# Altium footprint library Components_UNO.PcbLib: 25 footprints (part 1 of 2)
Each footprint in its own frame and in the unit in brackets; x right, y up, seen from the top. Pads: shape width x height; smd on the part's side, far side on the other; paste and mask are expansions set on the pad; w line width, h text height; cw(c..) or ccw(c..) is an arc to the next point about the centre after c.
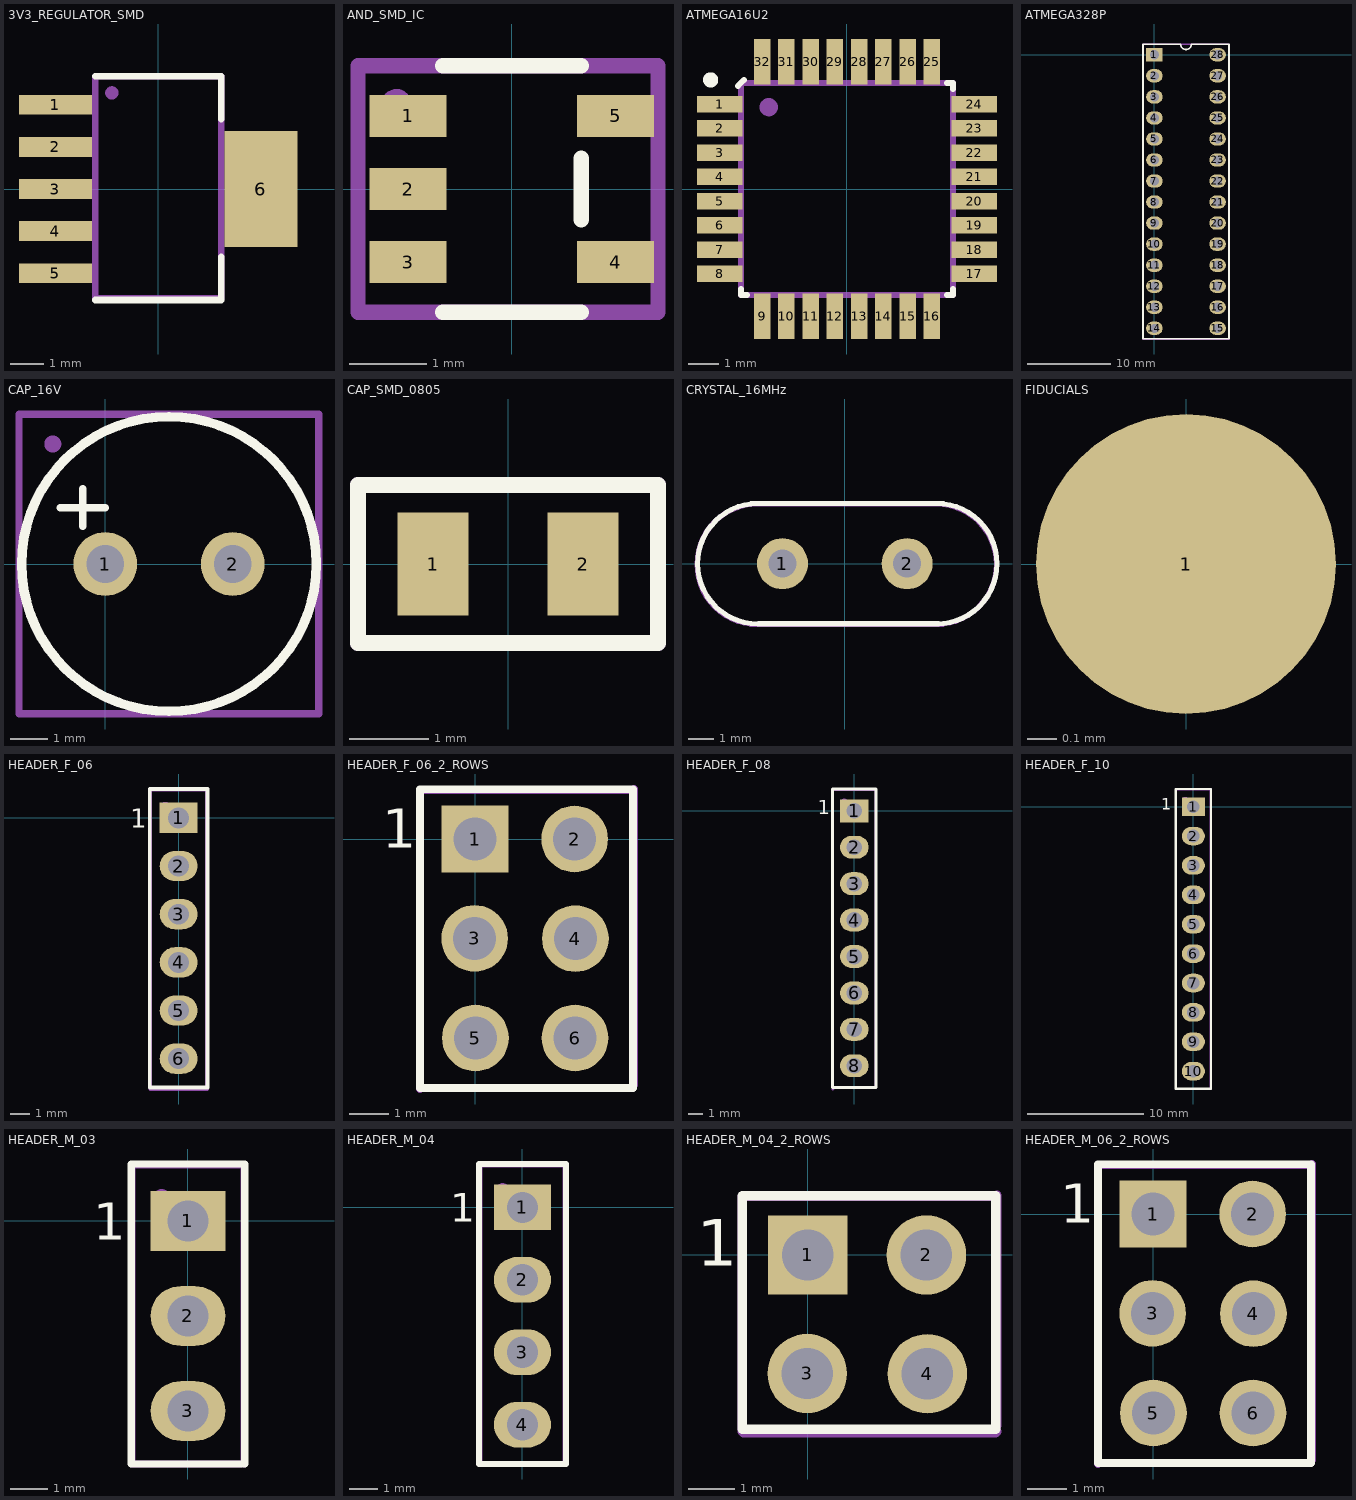
[diagram p0: the footprints below, top view; thin cyan lines are the x and y axes]

## 3V3_REGULATOR_SMD [mm]
pads (6):
  rect 2.2x0.6 smd: 1(-3.1,2.54) 2(-3.1,1.27) 3(-3.1,0) 4(-3.1,-1.27) 5(-3.1,-2.54)
  rect 2.2x3.5 smd: 6(3.1,0)
Top Overlay:
  lines w0.2: -1.9,-3.35 1.9,-3.35 1.9,-2.05 ; -1.9,3.4 1.9,3.4 1.9,2.1
Mechanical 29:
  circle w0.2: c-1.4,2.9 r0.1
  lines w0.2: -1.9,-3.3 -1.9,3.4 1.9,3.4 1.9,-3.3 -1.9,-3.3
  text ".Designator" at -0.7,2.6 h1.52
3D body "User Library-TPS73701DCQ.STEP": height 1.8, standoff 0, extent -3.63,-3.275 3.63,3.275

## AND_SMD_IC [mm]
pads (5):
  rect 1x0.55 smd: 1(-1.35,0.95) 2(-1.35,0) 3(-1.35,-0.95) 4(1.35,-0.95) 5(1.35,0.95)
Top Overlay:
  lines w0.2: -0.9,-1.6 0.9,-1.6 ; -0.9,1.6 0.9,1.6 ; 0.9,-0.4 0.9,0.4
Mechanical 29:
  circle w0.2: c-1.5,1.1 r0.1
  lines w0.2: 1.9,1.6 -2,1.6 -2,-1.6 1.9,-1.6 1.9,1.6 ; 1.9,1.6 1.9,1.6
  text "'.Designator'" at -0.6,-0.5 h1
3D body "User Library-TPS79333DBVR.STEP": height 1.6, standoff -0.02, extent -1.513,-1.525 1.514,1.525

## ATMEGA16U2 [mm]
pads (32):
  rect 1.5x0.55 smd mask+0.06: 1(-4.2,2.8) 2(-4.2,2) 3(-4.2,1.2) 4(-4.2,0.4) 5(-4.2,-0.4) 6(-4.2,-1.2) 7(-4.2,-2) 8(-4.2,-2.8) 17(4.2,-2.8) 18(4.2,-2) 19(4.2,-1.2) 20(4.2,-0.4) 21(4.2,0.4) 22(4.2,1.2) 23(4.2,2) 24(4.2,2.8)
  rect 0.55x1.5 smd mask+0.06: 9(-2.8,-4.2) 10(-2,-4.2) 11(-1.2,-4.2) 12(-0.4,-4.2) 13(0.4,-4.2) 14(1.2,-4.2) 15(2,-4.2) 16(2.8,-4.2) 25(2.8,4.2) 26(2,4.2) 27(1.2,4.2) 28(0.4,4.2) 29(-0.4,4.2) 30(-1.2,4.2) 31(-2,4.2) 32(-2.8,4.2)
Top Overlay:
  circle w0.3: c-4.5,3.6 r0.1
  lines w0.2: -3.6,3.4 -3.4,3.6 ; -3.5,-3.3 -3.5,-3.5 -3.3,-3.5 ; 3.3,-3.5 3.5,-3.5 3.5,-3.3 ; 3.3,3.5 3.5,3.5 3.5,3.3
Mechanical 29:
  circle w0.4: c-2.584,2.7 r0.1
  lines w0.2: -3.5,-3.5 3.5,-3.5 3.5,3.5 -3.5,3.5 -3.5,-3.5
  text "'.Designator'" at -1.4,-0.5 h1.52
3D body "User Library-TQFP32-4.STEP": height 1.15, standoff 0, extent -4.512,-4.512 4.512,4.512

## ATMEGA328P [mm]
pads (28):
  rect 2x1.6 / inner rect 2x1.2 / far side rect 2x1.6 hole 1.1: 1(0,0)
  oval 2x1.6 / inner oval 2x1.2 / far side oval 2x1.6 hole 1.1: 2(0,-2.54) 3(0,-5.08) 4(0,-7.62) 5(0,-10.16) 6(0,-12.7) 7(0,-15.24) 8(0,-17.78) 9(0,-20.32) 10(0,-22.86) 11(0,-25.4) 12(0,-27.94) 13(0,-30.48) 14(0,-33.02) 15(7.62,-33.02) 16(7.62,-30.48) 17(7.62,-27.94) 18(7.62,-25.4) 19(7.62,-22.86) 20(7.62,-20.32) 21(7.62,-17.78) 22(7.62,-15.24) 23(7.62,-12.7) 24(7.62,-10.16) 25(7.62,-7.62) 26(7.62,-5.08) 27(7.62,-2.54) 28(7.62,0)
Top Overlay:
  lines w0.2: -1.39,-34.29 -1.39,1.27 3.175,1.27 ccw(c3.81,1.27) 4.445,1.27 9.01,1.27 9.01,-34.29 -1.39,-34.29
Mechanical 29:
  lines w0.2: -1.39,-34.31 9.01,-34.31 9.01,1.29 -1.39,1.29 -1.39,-34.31
  lines w0.58: 0.306,-0.059 cw(c0.01,-0.01) 0.31,-0.01
  text "'.Designator'" at 4.7,-19.2 h2
3D body "User Library-DIP-28P-M04.STEP": height 8.2, standoff 0, extent -0.225,-34.31 7.645,1.09
3D body "2445626_1-2199298-9.stp": height 5, standoff -3.1, extent -1.1,-34.5 8.9,1.06

## CAP_16V [mm]
pads (2):
  round 1.7 hole 1: 1(0,0) 2(3.4,0)
Top Overlay:
  circle w0.254: c1.7,0 r3.929
  lines w0.2: -1.2,1.5 0,1.5 ; -0.6,1 -0.6,2
Mechanical 29:
  circle w0.254: c-1.4,3.2 r0.1
  lines w0.2: 5.7,4 5.7,-4 -2.3,-4 -2.3,4 5.7,4 ; 5.7,4 5.7,4
  text "'.Designator'" at -0.8,-0.8 h1.52
3D body "User Library-RNS1C101MDN1.STEP": height 11.71, standoff -2.9, extent -2.3,-4 5.7,4

## CAP_SMD_0805 [mm]
pads (2):
  rect 0.9x1.3 smd: 1(-0.95,0) 2(0.95,0)
Top Overlay:
  lines w0.2: -1.9,-1 1.9,-1 1.9,1 -1.9,1 -1.9,-1
Mechanical 29:
  lines w0.2: -1.9,-1 -1.9,1 1.9,1 1.9,-1 -1.9,-1
  text "'.Designator'" at -1.4,-0.5 h1
3D body "74567.stp": height 1.02, standoff 0.14, extent -1.1,-0.725 1.1,0.725

## CRYSTAL_16MHz [mm]
pads (2):
  round 2 hole 1.1: 1(-2.44,0) 2(2.44,0)
Top Overlay:
  lines w0.2: -3.4,-2.36 cw(c-3.4,0) -3.4,2.36 3.6,2.36 cw(c3.6,0) 3.6,-2.36 ; -3.375,-2.35 3.675,-2.35
Mechanical 29:
  lines w0.2: -3.425,-2.385 cw(c-3.425,-0.025) -3.425,2.335 3.575,2.335 cw(c3.575,-0.025) 3.575,-2.385 ; -3.4,-2.375 3.65,-2.375
  text "'.Designator'" at -2.3,-0.775 h1.52
3D body "User Library-HC-49_LT_THT_16MHz.STEP": height 3.8, standoff -1.79, extent -5.575,-2.3 5.775,2.35

## FIDUCIALS [mil]
pads (1):
  round 40 smd paste-1574.8 mask+40: 1(0,0)

## HEADER_F_06 [mm]
pads (6):
  rect 2x1.6 hole 1.1: 1(0,0)
  oval 2x1.6 hole 1.1: 2(0,-2.54) 3(0,-5.08) 4(0,-7.62) 5(0,-10.16) 6(0,-12.7)
Top Overlay:
  lines w0.2: -1.524,-14.224 -1.524,-11.176 -1.524,1.524 1.524,1.524 1.524,-14.224 -1.524,-14.224
  text "1" at -2.54,-0.508 h1
Mechanical 29:
  circle w0.3: c-0.7,0.6 r0.1
  lines w0.2: -1.5,-14.3 1.5,-14.3 1.5,1.5 -1.5,1.5 -1.5,-14.3
  text "'.Designator'" at 1,-7.5 h1.52
3D body "m20-7820646_asm.stp": height 8.5, standoff -3, extent -1.23,-14.17 1.27,1.47

## HEADER_F_06_2_ROWS [mm]
pads (6):
  rect 1.7x1.7 hole 1.1: 1(0,0)
  round 1.7 hole 1.1: 2(2.54,0) 3(-0.01,-2.535) 4(2.56,-2.54) 5(0.01,-5.075) 6(2.55,-5.075)
Top Overlay:
  lines w0.2: 0.635,1.27 4.025,1.27 4.025,-6.35 -1.4,-6.35 -1.4,1.27 1.905,1.27
  text "1" at -2.369,-0.229 h1
Mechanical 29:
  circle w0.3: c-0.35,0.375 r0.1
  lines w0.2: -1.4,-6.375 -1.4,1.25 4.025,1.25 4.05,1.275 4.05,-6.275 3.975,-6.35 -1.375,-6.35 -1.4,-6.375
  text "'.Designator'" at 2.2,-4.375 h1.52
3D body "Female Pin Header 02x03 Pitch 2.54mm Height 8.5mm.step": height 8.5, standoff -3.2, extent -1.2,-6.41 3.88,1.21

## HEADER_F_08 [mm]
pads (8):
  rect 2x1.6 hole 1.1: 1(0,0)
  oval 2x1.6 hole 1.1: 2(0,-2.54) 3(0,-5.08) 4(0,-7.62) 5(0,-10.16) 6(0,-12.7) 7(0,-15.24) 8(0,-17.78)
Top Overlay:
  lines w0.2: -1.524,-19.304 1.524,-19.304 1.524,1.524 -1.524,1.524 -1.524,-16.256 -1.524,-19.304
  text "1" at -2.54,-0.254 h1
Mechanical 29:
  circle w0.3: c-0.7,0.6 r0.1
  lines w0.2: -1.5,-19.4 -1.5,-14.3 -1.5,1.5 1.5,1.5 1.5,-14.3 1.5,-19.3 -1.4,-19.3 -1.5,-19.4
  text "'.Designator'" at 0.8,-10.8 h1.52
3D body "User Library-zl262-8s_p2-54_l20-82_w2-54_h8-5.STEP": height 8.5, standoff -3, extent -1.27,-19.3 1.27,1.52

## HEADER_F_10 [mm]
pads (10):
  rect 2x1.6 hole 1.1: 1(0,0)
  oval 2x1.6 hole 1.1: 2(0,-2.54) 3(0,-5.08) 4(0,-7.62) 5(0,-10.16) 6(0,-12.7) 7(0,-15.24) 8(0,-17.78) 9(0,-20.32) 10(0,-22.86)
Top Overlay:
  lines w0.2: -1.524,-24.384 -1.524,-21.336 -1.524,1.524 1.27,1.524 1.524,1.524 1.524,1.27 1.524,-24.384 -1.524,-24.384
  text "1" at -2.794,-0.254 h1
Mechanical 29:
  circle w0.3: c-0.7,0.6 r0.1
  lines w0.2: -1.5,-24.4 -1.5,1.5 1.5,1.5 1.5,-24.4 -1.5,-24.4
  text "'.Designator'" at 0.9,-13.1 h1.52
3D body "User Library-zl262-10s_p2-54_l25-9_w2-54_h8-5.STEP": height 8.6, standoff -2.9, extent -1.27,-24.38 1.27,1.52

## HEADER_M_03 [mm]
pads (3):
  rect 2x1.6 hole 1.1: 1(0,0)
  oval 2x1.6 hole 1.1: 2(0,-2.54) 3(0,-5.08)
Top Overlay:
  lines w0.2: -1.524,-6.5 -1.524,1.524 1.524,1.524 1.524,-6.5 -1.524,-6.5
  text "1" at -2.54,-0.508 h1
Mechanical 29:
  circle w0.3: c-0.7,0.6 r0.1
  lines w0.2: 1.4,-6.5 -1.5,-6.5 -1.5,1.5 1.5,1.5 1.5,-6.5
  text "'.Designator'" at 0.8,-5.4 h1.52
3D body "77678.stp": height 10.03, standoff -2.79, extent -1.168,-6.2 1.168,1.12

## HEADER_M_04 [mm]
pads (4):
  rect 2x1.6 hole 1.1: 1(0,0)
  oval 2x1.6 hole 1.1: 2(0,-2.54) 3(0,-5.08) 4(0,-7.62)
Top Overlay:
  lines w0.2: -1.524,-9 -1.524,1.524 1.524,1.524 1.524,-9 -1.524,-9
  text "1" at -2.54,-0.508 h1
Mechanical 29:
  circle w0.3: c-0.7,0.6 r0.1
  lines w0.2: -1.5,-9 1.5,-9 1.5,1.5 -1.5,1.5 -1.5,-9
  text "'.Designator'" at 0.8,-7.2 h1.52
3D body "77963.stp": height 9.7, standoff -3, extent -1.35,-8.88 2.3,1.28

## HEADER_M_04_2_ROWS [mm]
pads (4):
  rect 1.7x1.7 hole 1.1: 1(0,0)
  round 1.7 hole 1.1: 2(2.54,0) 3(-0.01,-2.535) 4(2.56,-2.54)
Top Overlay:
  lines w0.2: 0.635,1.27 4.025,1.27 4.025,-3.725 -1.4,-3.725 -1.4,1.27 1.905,1.27
  text "1" at -2.369,-0.229 h1
Mechanical 29:
  circle w0.3: c-0.35,0.375 r0.1
  lines w0.2: 4.05,-3.775 4.025,-3.8 -1.375,-3.8 -1.4,-3.775 -1.4,1.25 4.025,1.25 4.05,1.275 4.05,-3.65
  text "'.Designator'" at 2.2,-2.85 h1.52
3D body "31593.stp": height 8.24, standoff -2.93, extent -1.087,-3.588 3.587,1.289

## HEADER_M_06_2_ROWS [mm]
pads (6):
  rect 1.7x1.7 hole 1.1: 1(0,0)
  round 1.7 hole 1.1: 2(2.54,0) 3(-0.01,-2.535) 4(2.56,-2.54) 5(0.01,-5.075) 6(2.55,-5.075)
Top Overlay:
  lines w0.2: 0.635,1.27 4.025,1.27 4.025,-6.35 -1.4,-6.35 -1.4,1.27 1.905,1.27
  text "1" at -2.369,-0.229 h1
Mechanical 29:
  circle w0.3: c-0.35,0.375 r0.1
  lines w0.2: -1.4,-6.375 -1.375,-6.35 3.975,-6.35 4.05,-6.275 4.05,1.275 4.025,1.25 -1.4,1.25 -1.4,-6.375
  text "'.Designator'" at 2.2,-4.375 h1.52
3D body "User Library-2x3 Header.STEP": height 8.5, standoff -3, extent -1.24,-6.385 3.8,1.235